# Altium footprint library Miscellaneous Devices.PcbLib: 152 footprints (part 6 of 10)
Each footprint in its own frame and in the unit in brackets; x right, y up, seen from the top. Pads: shape width x height; smd on the part's side, far side on the other; paste and mask are expansions set on the pad; w line width, h text height; cw(c..) or ccw(c..) is an arc to the next point about the centre after c.
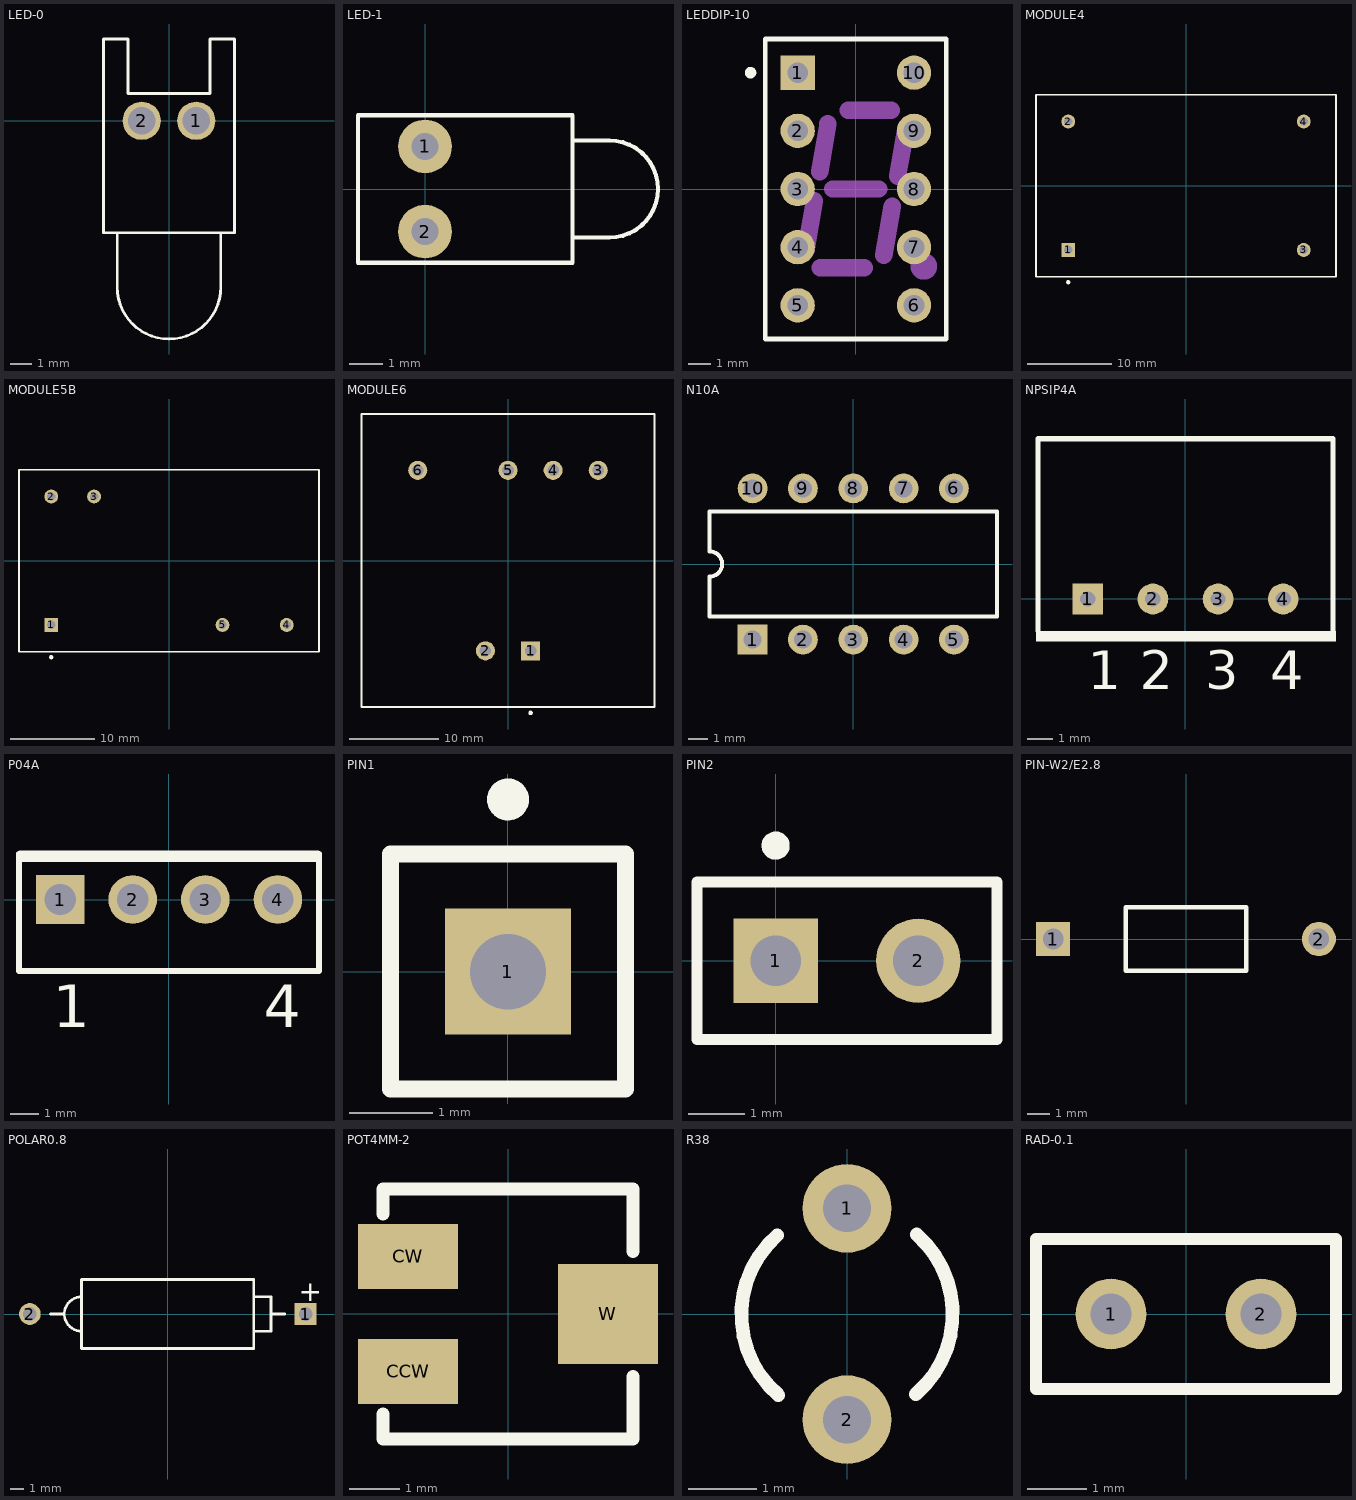
[diagram p5: the footprints below, top view; thin cyan lines are the x and y axes]

## LED-0 [mil] "Typical INFRARED GaAs LED; 2 Leads"
pads (2):
  round 70 hole 50: 1(50,0) 2(-50,0)
Top Overlay:
  lines w5: -95,-205 -95,-305 ccw(c0,-305) 95,-305 95,-205 ; -120,-205 120,-205 120,150 75,150 75,50 -75,50 -75,150 -120,150 -120,-205

## LED-1 [mm] "Typical RED GaAs LED; 2 Leads"
pads (2):
  round 1.6 hole 0.8: 1(0,1.27) 2(0,-1.27)
Top Overlay:
  lines w0.127: 4.4,-1.45 5.5,-1.45 ccw(c5.5,0) 5.5,1.45 4.4,1.45 ; -2,-2.2 4.4,-2.2 4.4,2.2 -2,2.2 -2,-2.2

## LEDDIP-10 [mm] "LED, 7-Segment Display, 7.62 mm, RHD; 10 Leads; Row Space 5.08 mm; Pitch 2.54 mm"
height 6.34
pads (10):
  rect 1.5x1.5 hole 0.9: 1(-2.54,5.08)
  round 1.5 hole 0.9: 2(-2.54,2.54) 3(-2.54,0) 4(-2.54,-2.54) 5(-2.54,-5.08) 6(2.54,-5.08) 7(2.54,-2.54) 8(2.54,0) 9(2.54,2.54) 10(2.54,5.08)
Top Overlay:
  circle w0.25: c-4.6,5.08 r0.125
  lines w0.2: -3.95,-6.55 -3.95,6.55 3.95,6.55 3.95,-6.55 -3.95,-6.55
Mechanical 1:
  circle w0.86: c2.97,-3.38 r0.15
  lines w0.762: -2.19,-2.69 -1.81,-0.52 ; -1.58,0.76 -1.22,2.84 ; -1.56,-3.43 0.36,-3.43 ; -1.004,0 1.004,0 ; -0.34,3.43 1.55,3.43 ; 1.22,-2.89 1.59,-0.76 ; 1.82,0.56 2.2,2.69

## MODULE4 [mm] "DIP; 4 Round Pins; Row Space 27.94 mm; Pitch 15.24 mm"
height 14
pads (4):
  rect 1.65x1.65 hole 1: 1(-13.97,-7.62)
  round 1.65 hole 1: 2(-13.97,7.62) 3(13.97,-7.62) 4(13.97,7.62)
Top Overlay:
  circle w0.25: c-13.97,-11.45 r0.125
  lines w0.2: -17.8,-10.8 -17.8,10.8 17.8,10.8 17.8,-10.8 -17.8,-10.8

## MODULE5B [mm] "DIP; 5 Round Pins; Row Space 15.24 mm; Pitch 2.54 mm"
height 14
pads (5):
  rect 1.65x1.65 hole 1: 1(-13.97,-7.62)
  round 1.65 hole 1: 2(-13.97,7.62) 3(-8.89,7.62) 4(13.97,-7.62) 5(6.35,-7.62)
Top Overlay:
  circle w0.25: c-13.97,-11.45 r0.125
  lines w0.2: -17.8,-10.8 17.8,-10.8 17.8,10.8 -17.8,10.8 -17.8,-10.8

## MODULE6 [mm] "DIP; 6 Round Pins; Row Space 20.32 mm; Pitch 2.54 mm"
height 16.5
pads (6):
  rect 2.15x2.15 hole 1.3: 1(2.54,-10.16)
  round 2.15 hole 1.3: 2(-2.54,-10.16) 3(10.16,10.16) 4(5.08,10.16) 5(0,10.16) 6(-10.16,10.16)
Top Overlay:
  circle w0.25: c2.54,-17.15 r0.125
  lines w0.2: -16.5,-16.5 -16.5,16.5 16.5,16.5 16.5,-16.5 -16.5,-16.5

## N10A [mm] "DIP; 10 Leads; Row Spacing 7.62 mm; Pitch 2.54 mm"
height 5.08
pads (10):
  rect 1.5x1.5 hole 0.9: 1(-5.08,-3.81)
  round 1.5 hole 0.9: 2(-2.54,-3.81) 3(0,-3.81) 4(2.54,-3.81) 5(5.08,-3.81) 6(5.08,3.81) 7(2.54,3.81) 8(0,3.81) 9(-2.54,3.81) 10(-5.08,3.81)
Top Overlay:
  lines w0.2: -7.25,-2.65 -7.25,-0.635 ccw(c-7.25,0) -7.25,0.635 -7.25,2.65 7.25,2.65 7.25,-2.65 -7.25,-2.65

## NPSIP4A [mm] "SIP; 4 Leads; Body 10 x 11.5 x 7.5 mm (typ); Pitch 2.54 mm"
height 10.6
pads (4):
  rect 1.2x1.2 hole 0.6: 1(-3.81,0)
  round 1.2 hole 0.6: 2(-1.27,0) 3(1.27,0) 4(3.81,0)
Top Overlay:
  rectangle: -5.83,-1.65 5.87,-1.25
  lines w0.2: -5.75,-1.25 -5.75,6.25 5.75,6.25 5.75,-1.25
  text "1" at -3.81,-3.52 h1.5
  text "2" at -1.778,-3.52 h1.5
  text "3" at 0.762,-3.52 h1.5
  text "4" at 3.302,-3.52 h1.5

## P04A [mm] "TO, Thru-Hole, Vertical, Heatsink Mounted; 4 In-Line Leads; Pitch 2.54 mm"
height 20.6
pads (4):
  rect 1.7x1.7 hole 1.1: 1(-3.81,0)
  round 1.7 hole 1.1: 2(-1.27,0) 3(1.27,0) 4(3.81,0)
Top Overlay:
  rectangle: -5.25,1.311 5.25,1.711
  lines w0.2: -5.25,1.6 -5.25,-2.5 5.25,-2.5 5.25,1.6
  text "4" at 3.31,-4.475 h1.5
  text "1" at -4.06,-4.475 h1.5

## PIN1 [mm] "Generic Antenna; 1 Lead"
pads (1):
  rect 1.5x1.5 hole 0.9: 1(0,0)
Top Overlay:
  circle w0.25: c0,2.05 r0.125
  lines w0.2: -1.4,-1.4 1.4,-1.4 1.4,1.4 -1.4,1.4 -1.4,-1.4

## PIN2 [mm] "Photosensitive Diode; 2 Leads"
pads (2):
  rect 1.5x1.5 hole 0.9: 1(0,0)
  round 1.5 hole 0.9: 2(2.54,0)
Top Overlay:
  circle w0.25: c0,2.05 r0.125
  lines w0.2: -1.4,-1.4 -1.4,1.4 3.94,1.4 3.94,-1.4 -1.4,-1.4

## PIN-W2/E2.8 [mm] "Fuse; 2 Leads"
pads (2):
  rect 1.5x1.5 hole 0.9: 1(-5.825,0)
  round 1.5 hole 0.9: 2(5.825,0)
Top Overlay:
  lines w0.2: -2.65,-1.4 -2.65,1.4 2.65,1.4 2.65,-1.4 -2.65,-1.4

## POLAR0.8 [mm] "Polarized Capacitor (Axial); 2 Leads"
height 5.08
pads (2):
  rect 1.6x1.6 hole 1: 1(10.16,0)
  round 1.6 hole 1: 2(-10.16,0)
Top Overlay:
  lines w0.2: -8.636,0 -7.62,0 ; -6.35,-1.27 cw(c-6.35,0) -6.35,1.27 ; 6.35,-1.27 7.62,-1.27 7.62,1.27 6.35,1.27 ; 7.62,0 8.636,0 ; -6.35,-2.54 6.35,-2.54 6.35,2.54 -6.35,2.54 -6.35,-2.54
  text "+" at 9.652,0.95 h1.5

## POT4MM-2 [mm] "Square Trimming Potentiometer"
pads (3):
  rect 2x1.3 smd: CCW(-2,-1.15) CW(-2,1.15)
  rect 2x2 smd: W(2,0)
Top Overlay:
  lines w0.254: -2.5,-2 -2.5,-2.5 2.5,-2.5 2.5,-1.25 ; -2.5,2 -2.5,2.5 2.5,2.5 2.5,1.25

## R38 [mm] "Crystal, Thru-Hole; 2 Leads; Body 3.1 x 8.2 mm (Dia.xH)"
height 8.2
pads (2):
  round 1.3 hole 0.7: 1(0,1.55) 2(0,-1.55)
Top Overlay:
  lines w0.2: -1.022,1.155 ccw(c0,-0.01) -1.006,-1.189 ; 1.006,-1.179 ccw(c0,0) 1.022,1.165

## RAD-0.1 [mm] "Indicating Instrument; 2 Leads"
pads (2):
  round 1.2 hole 0.7: 1(-1.27,0) 2(1.27,0)
Top Overlay:
  lines w0.2: -2.54,-1.27 2.54,-1.27 2.54,1.27 -2.54,1.27 -2.54,-1.27